# EAGLE library part BQ24617 (library CPSS_IC)
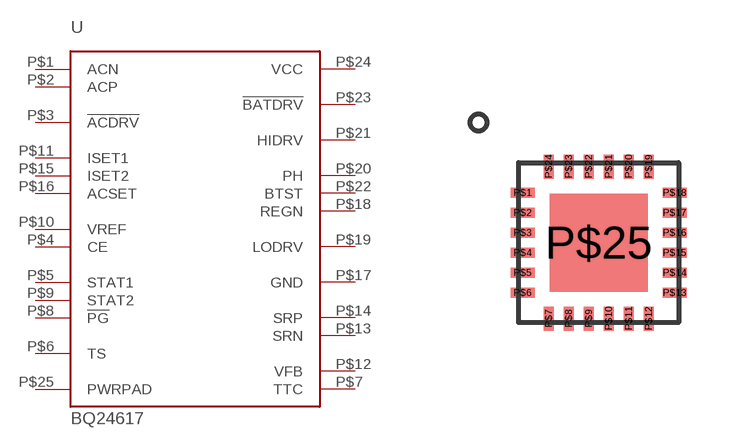
[diagram p7: symbol with the pads of VQFN; footprint VQFN]

Designator prefix -

## BQ24617  [VQFN]
P$1  ACN
P$2  ACP
P$3  !ACDRV
P$4  CE
P$5  STAT1
P$6  TS
P$7  TTC
P$8  !PG
P$9  STAT2
P$10  VREF
P$11  ISET1
P$12  VFB
P$13  SRN
P$14  SRP
P$15  ISET2
P$16  ACSET
P$17  GND
P$18  REGN
P$19  LODRV
P$20  PH
P$21  HIDRV
P$22  BTST
P$23  !BATDRV
P$24  VCC
P$25  PWRPAD

## Footprint VQFN (pad centres in mm)
smd 0.6 x 0.25: P$1 -1.9,1.25; P$2 -1.9,0.75; P$3 -1.9,0.25; P$4 -1.9,-0.25; P$5 -1.9,-0.75; P$6 -1.9,-1.25; P$13 1.9,-1.25; P$14 1.9,-0.75; P$15 1.9,-0.25; P$16 1.9,0.25; P$17 1.9,0.75; P$18 1.9,1.25
smd 0.25 x 0.6: P$7 -1.25,-1.9; P$8 -0.75,-1.9; P$9 -0.25,-1.9; P$10 0.25,-1.9; P$11 0.75,-1.9; P$12 1.25,-1.9; P$19 1.25,1.9; P$20 0.75,1.9; P$21 0.25,1.9; P$22 -0.25,1.9; P$23 -0.75,1.9; P$24 -1.25,1.9
smd 2.45 x 2.45: P$25 0,0